# EAGLE library part ADM3101 (library AnalogDevices)
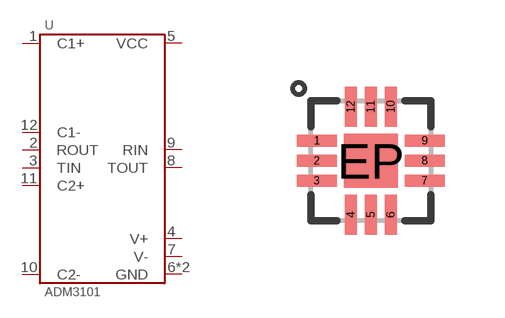
[diagram p2: symbol with the pads of QFN-12_3X3; footprint QFN-12_3X3]

Designator prefix U

## ADM3101EACPZ-250R7  [QFN-12_3X3]
1  C1+
2  ROUT
3  TIN
4  V+
5  VCC
6  GND
7  V-
8  TOUT
9  RIN
10  C2-
11  C2+
12  C1-
EP  GND

## Footprint QFN-12_3X3 (pad centres in mm)
smd 1 x 0.295: 1 -1.35,0.5; 2 -1.35,0; 3 -1.35,-0.5; 7 1.35,-0.5; 8 1.35,0; 9 1.35,0.5
smd 0.295 x 1: 4 -0.5,-1.35; 5 0,-1.35; 6 0.5,-1.35; 10 0.5,1.35; 11 0,1.35; 12 -0.5,1.35
smd 1.35 x 1.35: EP 0,0